# Altium schematic symbol library DS1302Z+T&R.Schlib: 1 symbol
Pins are listed as number, name and electrical type; pins without a type are passive.

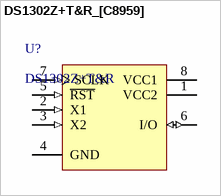
[diagram p0: symbol DS1302Z+T&R_[C8959]]

## DS1302Z+T&R_[C8959]
designator U?, comment DS1302Z+T&R
实时时钟
footprint SOIC-8_150mil
pins: 1 VCC2 (power), 2 X1 (in), 3 X2 (in), 4 GND (power), 5 ~{RST} (in), 6 I/O (io), 7 SCLK (in), 8 VCC1 (power)